# EAGLE library part USB-B-BIG (library MSA_lib)
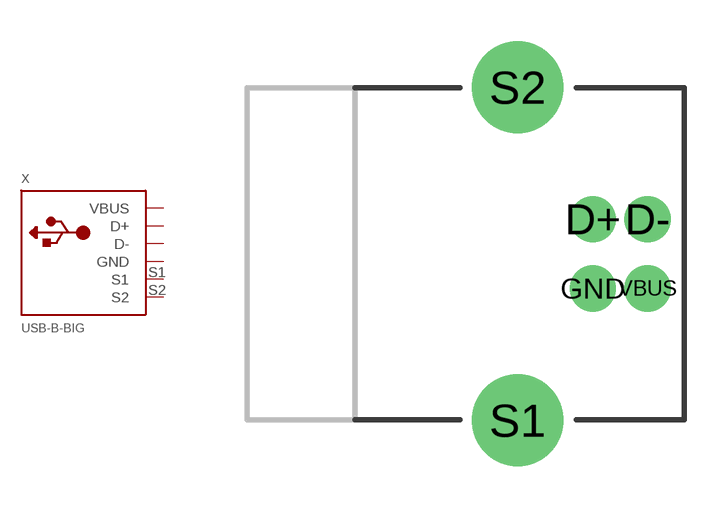
[diagram p27: symbol with the pads of USB-B-PTH; footprint USB-B-PTH]

Designator prefix X

## USB-B-BIGUSB-B (OC_FARNELL: 2112373)  [USB-B-PTH]
D+  D+
D-  D-
GND  GND  pwr
S1  S1
S2  S2
VBUS  VBUS  pwr

## Footprint USB-B-PTH (pad centres in mm)
USB Series B Hole Mounted
drill 1 pad 1.676: D+ 0,1.25; D- 1.981,1.25; GND 0,-1.25; VBUS 1.981,-1.25
drill 2.3: S1 -2.718,-6.02; S2 -2.718,6.02